# EAGLE library part MCP23017T-E_ML (library MCP23017T-E_ML)
Interface - I/O Expanders 16bit Input/Output Exp I2C interface Source: Datasheet <https://datasheet.datasheetarchive.com/originals/distributors/SFDatasheet-4/sf-00090057.pdf>
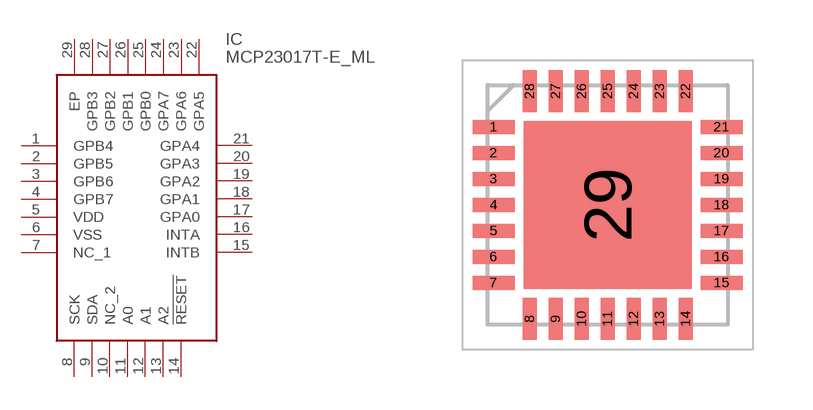
[diagram p0: symbol with the pads of QFN65P600X600X100-29N; footprint QFN65P600X600X100-29N]

Designator prefix IC

## MCP23017T-E_ML (Description: Interface - I/O Expanders 16bit Input/Output Exp I2C interface; Height: 1mm; Manufacturer_Name: Microchip; Manufacturer_Part_Number: MCP23017T-E/ML; Mouser_Part_Number: 579-MCP23017T-E/ML; Mouser_Price-Stock: https://www.mouser.co.uk/ProductDetail/Microchip-Technology/MCP23017T-E-ML?qs=usxtMOJb1RwLvxs2MXknpg%3D%3D)  [QFN65P600X600X100-29N]
1  GPB4
2  GPB5
3  GPB6
4  GPB7
5  VDD
6  VSS
7  NC_1
8  SCK
9  SDA
10  NC_2
11  A0
12  A1
13  A2
14  !RESET
15  INTB
16  INTA
17  GPA0
18  GPA1
19  GPA2
20  GPA3
21  GPA4
22  GPA5
23  GPA6
24  GPA7
25  GPB0
26  GPB1
27  GPB2
28  GPB3
29  EP

## Footprint QFN65P600X600X100-29N (pad centres in mm)
28-LEAD PLASTIC QUAD FLAT NO LEAD PACKAGE
smd 1.05 x 0.35: 1 -2.85,1.95; 2 -2.85,1.3; 3 -2.85,0.65; 4 -2.85,0; 5 -2.85,-0.65; 6 -2.85,-1.3; 7 -2.85,-1.95; 15 2.85,-1.95; 16 2.85,-1.3; 17 2.85,-0.65; 18 2.85,0; 19 2.85,0.65; 20 2.85,1.3; 21 2.85,1.95
smd 0.35 x 1.05: 8 -1.95,-2.85; 9 -1.3,-2.85; 10 -0.65,-2.85; 11 0,-2.85; 12 0.65,-2.85; 13 1.3,-2.85; 14 1.95,-2.85; 22 1.95,2.85; 23 1.3,2.85; 24 0.65,2.85; 25 0,2.85; 26 -0.65,2.85; 27 -1.3,2.85; 28 -1.95,2.85
smd 4.2 x 4.2: 29 0,0